# EAGLE library part 100DP (library Soundwall)
E-Switch 100 series, DPDT. See Product Page <https://www.e-switch.com/product-catalog/toggle/product-lines/100-series-miniature-toggle-switches> For configurations
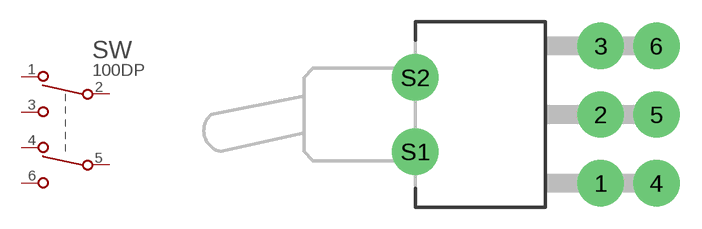
[diagram p2: symbol with the pads of 100-M6-DPDT; footprint 100-M6-DPDT]

Designator prefix SW

## 100DP1T2B4M6QE  [100-M6-DPDT]
1  1  pas
2  2  pas
3  3  pas
4  4  pas
5  5  pas
6  6  pas

## Footprint 100-M6-DPDT (pad centres in mm)
E-Switch 100 series, DPDT M6 Version. Product Page <https://www.e-switch.com/product-catalog/toggle/product-lines/100-series-miniature-toggle-switches>
drill 1.854 pad 3.175: 1 12.7,-4.699; 2 12.7,0; 3 12.7,4.699; 4 16.51,-4.699; 5 16.51,0; 6 16.51,4.699; S1 0,-2.54; S2 0,2.54